# Altium footprint library QFN.PcbLib: 84 footprints (part 6 of 6)
Each footprint in its own frame and in the unit in brackets; x right, y up, seen from the top. Pads: shape width x height; smd on the part's side, far side on the other; paste and mask are expansions set on the pad; w line width, h text height; cw(c..) or ccw(c..) is an arc to the next point about the centre after c.
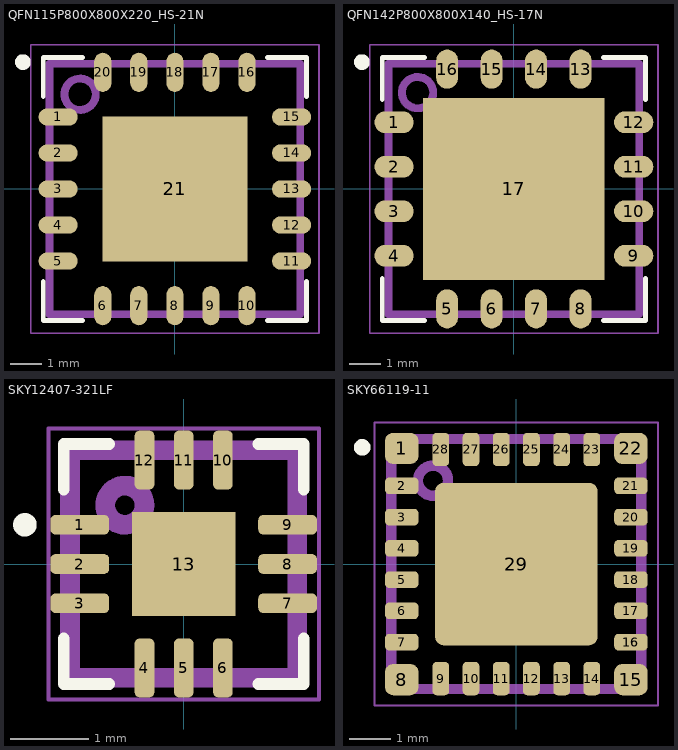
[diagram p5: the footprints below, top view; thin cyan lines are the x and y axes]

## QFN115P800X800X220_HS-21N [mm] "QFN, 20-Leads, Body 8.00x8.00mm, Pitch 1.15mm, Thermal Pad 4.62x4.62mm, IPC Medium Density"
height 2.2
pads (21):
  oval 1.25x0.55 smd: 1(-3.725,2.3) 2(-3.725,1.15) 3(-3.725,0) 4(-3.725,-1.15) 5(-3.725,-2.3) 11(3.725,-2.3) 12(3.725,-1.15) 13(3.725,0) 14(3.725,1.15) 15(3.725,2.3)
  oval 0.55x1.25 smd: 6(-2.3,-3.725) 7(-1.15,-3.725) 8(0,-3.725) 9(1.15,-3.725) 10(2.3,-3.725) 16(2.3,3.725) 17(1.15,3.725) 18(0,3.725) 19(-1.15,3.725) 20(-2.3,3.725)
  rect 4.62x4.62 smd: 21(0,0)
Top Overlay:
  circle w0.25: c-4.85,4.05 r0.125
  lines w0.15: -4.2,-2.95 -4.2,-4.2 -2.95,-4.2 ; -4.2,2.95 -4.2,4.2 -2.95,4.2 ; 2.95,-4.2 4.2,-4.2 4.2,-2.95 ; 2.95,4.2 4.2,4.2 4.2,2.95
Top Assembly:
  circle w0.25: c-3.025,3.025 r0.5
  lines w0.25: -4,-4 -4,4 4,4 4,-4 -4,-4
  text ".Designator" at -2.975,-0.518 h1.5
Top Courtyard:
  circle w0.05: c0,0 r0.35
  lines w0.05: -0.5,0 0.5,0 ; 0,-0.5 0,0.5 ; -4.6,-4.6 -4.6,4.6 4.6,4.6 4.6,-4.6 -4.6,-4.6
3D body "QFN115P800X800X220_HS-21N.step": height 2.2, standoff 0, extent -4.001,-4.001 4.001,4.001

## QFN142P800X800X140_HS-17N [mm] "QFN, 16-Leads, Body 8.00x8.00mm, Pitch 1.42mm, Thermal Pad 5.80x5.80mm, IPC Medium Density"
height 1.4
pads (17):
  oval 1.25x0.7 smd: 1(-3.825,2.13) 2(-3.825,0.71) 3(-3.825,-0.71) 4(-3.825,-2.13) 9(3.825,-2.13) 10(3.825,-0.71) 11(3.825,0.71) 12(3.825,2.13)
  oval 0.7x1.25 smd: 5(-2.13,-3.825) 6(-0.71,-3.825) 7(0.71,-3.825) 8(2.13,-3.825) 13(2.13,3.825) 14(0.71,3.825) 15(-0.71,3.825) 16(-2.13,3.825)
  rect 5.8x5.8 smd: 17(0,0)
Top Overlay:
  circle w0.25: c-4.85,4.05 r0.125
  lines w0.15: -4.2,-2.855 -4.2,-4.2 -2.855,-4.2 ; -4.2,2.855 -4.2,4.2 -2.855,4.2 ; 2.855,-4.2 4.2,-4.2 4.2,-2.855 ; 2.855,4.2 4.2,4.2 4.2,2.855
Top Assembly:
  circle w0.25: c-3.075,3.075 r0.5
  lines w0.25: -4,-4 4,-4 4,4 -4,4 -4,-4
  text ".Designator" at -3.1,-0.618 h1.5
Top Courtyard:
  circle w0.05: c0,0 r0.35
  lines w0.05: -0.5,0 0.5,0 ; 0,-0.5 0,0.5 ; -4.6,-4.6 -4.6,4.6 4.6,4.6 4.6,-4.6 -4.6,-4.6
3D body "QFN142P800X800X140_HS-17N.step": height 1.4, standoff 0, extent -4.051,-4.051 4.051,4.051

## SKY12407-321LF [mm]
height 0.8
pads (13):
  rrect51% 0.75x0.25 smd: 1(-1.325,0.5) 2(-1.325,0) 3(-1.325,-0.5) 7(1.325,-0.5) 8(1.325,0) 9(1.325,0.5)
  rrect51% 0.25x0.75 smd: 4(-0.5,-1.325) 5(0,-1.325) 6(0.5,-1.325) 10(0.5,1.325) 11(0,1.325) 12(-0.5,1.325)
  rect 1.32x1.32 smd paste-1.5: 13(0,0)
Top Overlay:
  circle w0.15: c-2.025,0.5 r0.075
  lines w0.15: -1.53,-0.95 -1.53,-1.53 -0.95,-1.53 ; -1.53,0.95 -1.53,1.53 -0.95,1.53 ; 0.95,-1.53 1.53,-1.53 1.53,-0.95 ; 0.95,1.53 1.53,1.53 1.53,0.95
Top Paste:
  region: -0.64,-0.64 -0.64,-0.11 -0.11,-0.11 -0.11,-0.64
  region: 0.11,-0.64 0.11,-0.11 0.64,-0.11 0.64,-0.64
  region: -0.64,0.11 -0.64,0.64 -0.11,0.64 -0.11,0.11
  region: 0.11,0.11 0.11,0.64 0.64,0.64 0.64,0.11
Top Assembly:
  circle w0.25: c-0.75,0.75 r0.25
  lines w0.25: -1.45,-1.45 -1.45,1.45 1.45,1.45 1.45,-1.45 -1.45,-1.45
  text ".Designator" at -1,-1 h1.5
Top Courtyard:
  circle w0.05: c0,0 r0.25
  lines w0.05: -0.35,0 0.35,0 ; 0,-0.35 0,0.35 ; -1.725,-1.725 1.725,-1.725 1.725,1.725 -1.725,1.725 -1.725,-1.725
3D body "PQFN13P50_290X290X90L32X30T150.STEP": height 0.9, standoff 0, extent -1.45,-1.45 1.45,1.45

## SKY66119-11 [mm] "Skyworks QFN, 28-Leads + 4 Corner GND, Body 6.00x6.00mm, Pitch 0.725mm0.75, Thermal Pad 3.875x3.875mm"
height 1.15
pads (31):
  rrect50% 0.8x0.75 smd: 1(-2.75,2.775) 8(-2.75,-2.775) 15(2.75,-2.775) 22(2.75,2.775)
  rrect50% 0.8x0.4 smd: 2(-2.75,1.875) 2(-2.75,1.875) 3(-2.75,1.125) 4(-2.75,0.375) 5(-2.75,-0.375) 6(-2.75,-1.125) 7(-2.75,-1.875) 16(2.75,-1.875) 16(2.75,-1.875) 17(2.75,-1.125) 18(2.75,-0.375) 19(2.75,0.375) 20(2.75,1.125) 21(2.75,1.875)
  rrect50% 0.4x0.8 smd: 9(-1.813,-2.75) 10(-1.088,-2.75) 11(-0.363,-2.75) 12(0.362,-2.75) 13(1.087,-2.75) 14(1.812,-2.75) 23(1.813,2.75) 24(1.088,2.75) 25(0.363,2.75) 26(-0.362,2.75) 27(-1.087,2.75) 28(-1.812,2.75)
  rrect10% 3.9x3.9 smd: 29(0,0)
Top Overlay:
  circle w0.2: c-3.7,2.8 r0.1
Top Assembly:
  circle w0.25: c-2,2 r0.361
  lines w0.25: -3,-3 -3,3 3,3 3,-3 -3,-3
  text ".Designator" at -2.2,-0.318 h1.5
Top Courtyard:
  lines w0.05: -0.5,0 0.5,0 ; 0,-0.5 0,0.5 ; -3.4,-3.4 3.4,-3.4 3.4,3.4 -3.4,3.4 -3.4,-3.4
3D body "SKY66119-11.STEP": height 1.15, standoff 0, extent -3,-3 3,3